# Altium schematic symbol library JSTConnectors (1).SchLib: 4 symbols
Pins are listed as number, name and electrical type; pins without a type are passive.

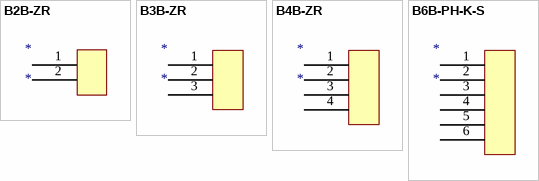
[diagram p0: symbols B2B-ZR to B6B-PH-K-S]

## B2B-ZR
designator *
pins: 1, 2

## B3B-ZR
designator *
pins: 1, 2, 3

## B4B-ZR
designator *
pins: 1, 2, 3, 4

## B6B-PH-K-S
designator *
pins: 1, 2, 3, 4, 5, 6